# Altium footprint library PcbLib1.PcbLib: 27 footprints (part 2 of 4)
Each footprint in its own frame and in the unit in brackets; x right, y up, seen from the top. Pads: shape width x height; smd on the part's side, far side on the other; paste and mask are expansions set on the pad; w line width, h text height; cw(c..) or ccw(c..) is an arc to the next point about the centre after c.
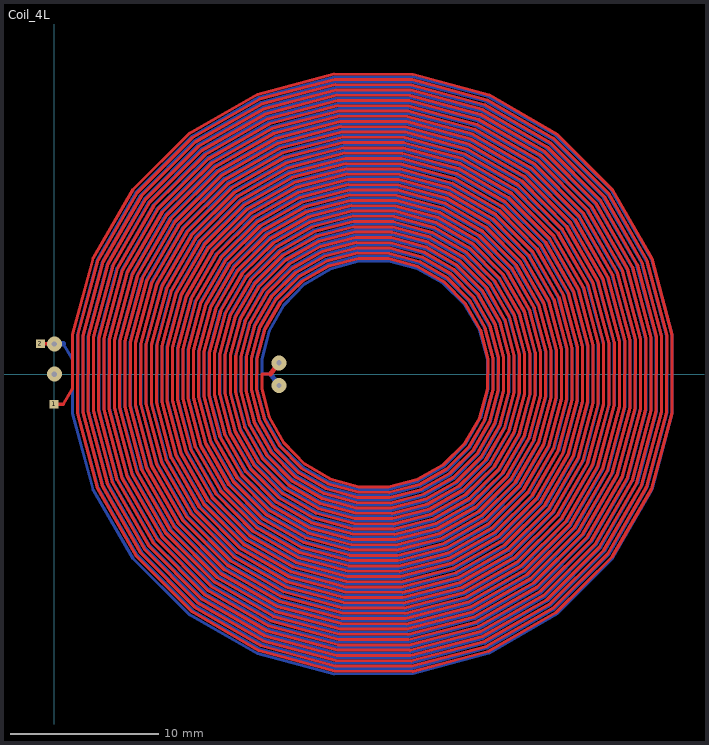
[diagram p1: the footprint, top view; thin cyan lines are the x and y axes]

## Coil_4L [mil]
pads (2):
  rect 24x22 smd: 1(-0.34,-79.53) 2(-37.08,80.47)
via 596,-30 diameter 40 hole 14
via 0,0 diameter 40 hole 14
via 596,30 diameter 40 hole 14
via 0,80 diameter 40 hole 14
Top Layer:
  lines w7.99: -0.34,-79.53 23.66,-79.53 47.66,-39.53 47.66,0.47 48.24,105.61 103.21,308.51 208.75,490.14 357.58,638.15 539.53,742.53 742.14,796.21 951.58,795.63 1153.6,740.9 1334.42,635.82 1481.79,487.64 1585.7,306.49 1639.15,104.77 1638.57,-103.76 1584.08,-304.88 1479.46,-484.92 1331.92,-631.63 1151.57,-735.08 950.74,-788.29 743.13,-787.71 542.9,-733.46 363.66,-629.3 217.6,-482.41 114.6,-302.86 61.63,-102.92 62.21,103.77 116.23,303.12 219.93,481.56 366.16,626.97 544.92,729.51 743.98,782.24 949.74,781.66 1148.2,727.88 1325.85,624.64 1470.61,479.06 1572.68,301.1 1625.18,102.93 1624.6,-101.92 1571.06,-299.49 1468.28,-476.34 1323.35,-620.45 1146.18,-722.07 948.9,-774.32 744.97,-773.74 548.29,-720.44 372.24,-618.12 228.78,-473.84 127.62,-297.47 75.6,-101.08 76.18,101.93 129.25,297.73 231.1,472.98 374.74,615.79 550.31,716.49 745.81,768.27 947.91,767.69 1142.81,714.86 1317.27,613.47 1459.43,470.48 1559.67,295.7 1611.21,101.09 1610.63,-100.08 1558.04,-294.1 1457.1,-467.76 1314.77,-609.27 1140.79,-709.05 947.06,-760.35 746.81,-759.77 553.68,-707.42 380.82,-606.94 239.95,-465.26 140.64,-292.08 89.57,-99.24 90.15,100.09 142.27,292.33 242.28,464.4 383.32,604.62 555.7,703.47 747.65,754.3 946.07,753.72 1137.42,701.84 1308.69,602.29 1448.25,461.9 1546.65,290.31 1597.24,99.25 1596.66,-98.24 1545.02,-288.71 1445.92,-459.18 1306.19,-598.09 1135.4,-696.03 945.22,-746.38 748.65,-745.8 559.07,-694.4 389.39,-595.76 251.13,-456.68 153.66,-286.68 103.54,-97.4 104.12,98.25 155.28,286.94 253.46,455.83 391.9,593.44 561.1,690.45 749.49,740.33 944.23,739.75 1132.03,688.83 1300.11,591.11 1437.07,453.32 1533.63,284.92 1583.27,97.41 1582.69,-96.4 1532,-283.31 1434.75,-450.6 1297.61,-586.91 1130,-683.01 943.38,-732.41 750.49,-731.83 564.47,-681.38 397.97,-584.59 262.31,-448.1 166.68,-281.29 117.51,-95.56 118.09,96.42 168.3,281.55 264.64,447.25 400.47,582.26 566.49,677.44 751.33,726.36 942.39,725.78 1126.63,675.81 1291.54,579.93 1425.9,444.75 1520.61,279.53 1569.3,95.57 1568.72,-94.56 1518.99,-277.92 1423.57,-442.03 1289.03,-575.74 1124.61,-669.99 941.54,-718.44 752.33,-717.86 569.86,-668.37 406.55,-573.41 273.49,-439.52 179.69,-275.9 131.48,-93.72 132.06,94.58 181.32,276.16 275.82,438.67 409.05,571.08 571.88,664.42 753.17,712.39 940.55,711.81 1121.24,662.79 1282.96,568.75 1414.72,436.17 1507.59,274.14 1555.33,93.73 1554.75,-92.72 1505.97,-272.53 1412.39,-433.45 1280.46,-564.56 1119.22,-656.98 939.71,-704.47 754.17,-703.89 575.25,-655.35 415.13,-562.23 284.67,-430.95 192.71,-270.51 145.45,-91.88 146.03,92.74 194.34,270.77 287,430.09 417.63,559.9 577.27,651.4 755.01,698.42 938.71,697.84 1115.85,649.77 1274.38,557.57 1403.54,427.59 1494.58,268.74 1541.36,91.89 1540.78,-90.88 1492.95,-267.14 1401.21,-424.87 1271.88,-553.38 1113.83,-643.96 937.87,-690.5 756.01,-689.92 580.64,-642.33 423.71,-551.05 295.85,-422.37 205.73,-265.11 159.42,-90.04 160,90.9 207.36,265.37 298.18,421.52 426.21,548.72 582.67,638.38 756.85,684.45 936.87,683.87 1110.46,636.75 1265.8,546.39 1392.36,419.01 1481.56,263.35 1527.39,90.06 1526.81,-89.05 1479.93,-261.74 1390.03,-416.29 1263.3,-542.2 1108.44,-630.94 936.03,-676.53 757.85,-675.95 586.04,-629.31 432.28,-539.87 307.03,-413.79 218.75,-259.72 173.39,-88.2 173.97,89.06 220.37,259.98 309.36,412.94 434.78,537.54 588.06,625.36 758.69,670.48 935.03,669.9 1105.07,623.74 1257.22,535.21 1381.18,410.44 1468.54,257.96 1513.42,88.22 1512.84,-87.21 1466.91,-256.35 1378.85,-407.72 1254.72,-531.02 1103.04,-617.92 934.19,-662.56 759.69,-661.98 591.43,-616.29 440.86,-528.69 318.21,-405.21 231.76,-254.33 187.36,-86.36 187.94,87.22 233.39,254.59 320.53,404.36 443.36,526.36 593.45,612.35 760.53,656.51 933.19,655.93 1099.67,610.72 1248.65,524.04 1370,401.86 1455.52,252.57 1499.45,86.38 1498.87,-85.37 1453.9,-250.96 1367.67,-399.14 1246.15,-519.84 1097.65,-604.9 932.35,-648.59 761.52,-648.01 596.82,-603.28 449.44,-517.51 329.38,-396.64 244.78,-248.94 201.33,-84.52 201.91,85.38 246.41,249.2 331.71,395.78 451.94,515.19 598.84,599.33 762.37,642.54 931.35,641.96 1094.28,597.7 1240.07,512.86 1358.82,393.28 1442.5,247.17 1485.48,84.54 1484.9,-83.53 1440.88,-245.57 1356.49,-390.56 1237.57,-508.66 1092.26,-591.89 930.51,-634.62 763.36,-634.04 602.21,-590.26 458.02,-506.33 340.56,-388.06 257.8,-243.55 215.3,-82.68 215.88,83.54 259.43,243.8 342.89,387.2 460.52,504.01 604.23,586.31 764.21,628.57 929.51,627.99 1088.89,584.68 1231.49,501.68 1347.64,384.7 1429.49,241.78 1471.51,82.7 1470.93,-81.69 1427.86,-240.18 1345.32,-381.98 1228.99,-497.48 1086.87,-578.87 928.67,-620.65 765.2,-620.07 607.6,-577.24 466.59,-495.16 351.74,-379.48 270.82,-238.15 229.27,-80.85 229.85,81.7 272.45,238.41 354.07,378.63 469.1,492.83 609.63,573.29 766.05,614.6 927.67,614.02 1083.5,571.66 1222.91,490.5 1336.47,376.12 1416.47,236.39 1457.54,80.86 1456.96,-79.85 1414.84,-234.78 1334.14,-373.4 1220.41,-486.31 1081.47,-565.85 926.83,-606.68 767.04,-606.1 613,-564.22 475.17,-483.98 362.92,-370.9 283.84,-232.76 243.24,-79.01 243.82,79.86 285.46,233.02 365.25,370.05 477.67,481.65 615.02,560.27 767.89,600.63 925.83,600.05 1078.1,558.65 1214.34,479.32 1325.29,367.55 1403.45,231 1443.57,79.02 1442.99,-78.01 1401.82,-229.39 1322.96,-364.83 1211.83,-475.13 1076.08,-552.83 924.99,-592.71 768.88,-592.13 618.39,-551.2 483.75,-472.8 374.1,-362.32 296.85,-227.37 257.21,-77.17 257.79,78.02 298.48,227.63 376.43,361.47 486.25,470.47 620.41,547.26 769.72,586.66 924,586.08 1072.71,545.63 1205.76,468.14 1314.11,358.97 1390.43,225.61 1429.6,77.18 1429.02,-76.17 1388.81,-224 1311.78,-356.25 1203.26,-463.95 1070.69,-539.81 923.15,-578.74 770.72,-578.16 623.78,-538.19 492.33,-461.62 385.28,-353.75 309.87,-221.98 271.18,-75.33 271.76,76.18 311.5,222.24 387.61,352.89 494.83,459.29 625.8,534.24 771.56,572.69 922.16,572.11 1067.32,532.61 1197.18,456.96 1302.93,350.39 1377.41,220.21 1415.63,75.34 1415.05,-74.33 1375.79,-218.61 1300.6,-347.67 1194.68,-452.77 1065.3,-526.8 921.31,-564.77 772.56,-564.19 629.17,-525.17 500.91,-450.44 396.46,-345.17 322.89,-216.58 285.15,-73.49 285.73,74.35 324.52,216.84 398.79,344.32 503.41,448.11 631.2,521.22 773.4,558.72 920.32,558.14 1061.93,519.59 1188.6,445.78 1291.75,341.81 1364.4,214.82 1401.66,73.5 1401.08,-72.49 1362.77,-213.21 1289.42,-339.09 1186.1,-441.59 1059.91,-513.78 919.47,-550.8 774.4,-550.22 634.57,-512.15 509.48,-439.26 407.64,-336.59 335.91,-211.19 299.12,-71.65 299.7,72.51 337.54,211.45 409.96,335.74 511.98,436.93 636.59,508.2 775.24,544.75 918.48,544.17 1056.54,506.57 1180.02,434.61 1280.57,333.24 1351.38,209.43 1387.69,71.66 1387.11,-70.65 1349.75,-207.82 1278.24,-330.52 1177.52,-430.41 1054.51,-500.76 917.64,-536.83 776.24,-536.25 639.96,-499.13 518.06,-428.08 418.81,-328.01 348.93,-205.8 313.09,-69.81 313.67,70.67 350.55,206.06 421.14,327.16 520.56,425.76 641.98,495.18 777.08,530.78 916.64,530.2 1051.14,493.56 1171.45,423.43 1269.39,324.66 1338.36,204.04 1373.72,69.82 1373.14,-68.81 1336.73,-202.43 1267.06,-321.94 1168.95,-419.23 1049.12,-487.74 915.8,-522.86 778.08,-522.28 645.35,-486.11 526.64,-416.9 429.99,-319.44 361.94,-200.41 327.06,-67.97 327.64,68.83 363.57,200.67 432.32,318.58 529.14,414.58 647.37,482.17 778.92,516.81 914.8,516.23 1045.75,480.54 1162.87,412.25 1258.21,316.08 1325.34,198.65 1359.75,67.98 1359.17,-66.97 1323.72,-197.04 1255.88,-313.36 1160.37,-408.05 1043.73,-474.72 913.96,-508.89 779.92,-508.31 650.74,-473.1 535.22,-405.73 441.17,-310.86 374.96,-195.02 341.03,-66.13 341.61,66.99 376.59,195.27 443.5,310 537.72,403.4 652.76,469.15 780.76,502.84 912.96,502.26 1040.36,467.52 1154.29,401.07 1247.04,307.5 1312.33,193.25 1345.78,66.15 1345.2,-65.14 1310.7,-191.65 1244.71,-304.78 1151.79,-396.88 1038.34,-461.71 912.12,-494.92 781.76,-494.34 656.13,-460.08 543.79,-394.55 452.35,-302.28 387.98,-189.62 355,-64.29 355.58,65.15 389.61,189.88 454.68,301.43 546.3,392.22 658.16,456.13 782.6,488.87 911.12,488.29 1034.97,454.5 1145.71,389.89 1235.86,298.92 1299.31,187.86 1331.81,64.31 1331.23,-63.3 1297.68,-186.25 1233.53,-296.2 1143.21,-385.7 1032.94,-448.69 910.28,-480.95 783.59,-480.37 661.53,-447.06 552.37,-383.37 463.53,-293.7 401,-184.23 368.97,-62.45 369.55,63.31 402.63,184.49 465.86,292.85 554.87,381.04 663.55,443.11 784.44,474.9 909.28,474.32 1029.57,441.48 1137.14,378.71 1224.68,290.35 1286.29,182.47 1317.84,62.47 1317.26,-61.46 1284.66,-180.86 1222.35,-287.63 1134.63,-374.52 1027.55,-435.67 908.44,-466.98 785.43,-466.4 666.92,-434.04 560.95,-372.19 474.71,-285.12 414.02,-178.84 382.94,-60.61 383.52,61.47 415.64,179.1 477.04,284.27 563.45,369.86 668.94,430.09 786.28,460.93 907.44,460.35 1024.18,428.47 1128.56,367.53 1213.5,281.77 1273.27,177.08 1303.87,60.63 1303.29,-59.62 1271.64,-175.47 1211.17,-279.05 1126.06,-363.34 1022.16,-422.65 906.6,-453.01 787.27,-452.43 672.31,-421.02 569.53,-361.01 485.89,-276.55 427.03,-173.45 396.91,-58.78 397.49,59.63 428.66,173.71 488.22,275.69 572.03,358.68 674.33,417.08 788.12,446.96 905.6,446.38 1018.79,415.45 1119.98,356.35 1202.32,273.19 1260.25,171.68 1289.9,58.79 1289.32,-57.78 1258.63,-170.08 1199.99,-270.47 1117.48,-352.16 1016.77,-409.63 904.76,-439.04 789.11,-438.46 677.7,-408.01 578.11,-349.83 497.07,-267.97 440.05,-168.05 410.88,-56.94 411.46,57.79 441.68,168.31 499.39,267.12 580.61,347.5 679.73,404.06 789.96,432.99 903.76,432.41 1013.4,402.43 1111.4,345.18 1191.14,264.61 1247.24,166.29 1275.93,56.95 1275.35,-55.94 1245.61,-164.68 1188.81,-261.89 1108.9,-340.98 1011.38,-396.62 902.92,-425.07 790.95,-424.49 683.1,-394.99 586.68,-338.65 508.24,-259.39 453.07,-162.66 424.85,-55.1 425.43,55.95 454.7,162.92 510.57,258.54 589.18,336.33 685.12,391.04 791.79,419.02 901.93,418.44 1008.01,389.41 1102.82,334 1179.96,256.04 1234.22,160.9 1261.96,55.11 1261.38,-54.1 1232.59,-159.29 1177.63,-253.32 1100.32,-329.8 1005.98,-383.6 901.08,-411.1 792.79,-410.52 688.49,-381.97 595.26,-327.47 519.42,-250.81 466.09,-157.27 438.82,-53.26 439.4,54.11 467.72,157.53 521.75,249.96 597.76,325.15 690.51,378.02 793.63,405.05 900.09,404.47 1002.61,376.39 1094.25,322.82 1168.78,247.46 1221.2,155.51 1247.99,53.27 1247.41,-52.26 1219.57,-153.9 1166.45,-244.74 1091.75,-318.62 1000.59,-370.58 899.24,-397.13 794.63,-396.55 693.88,-368.95 603.84,-316.3 530.6,-242.24 479.11,-151.88 452.79,-51.42 453.37,52.28 480.73,152.14 532.93,241.38 606.34,313.97 695.9,365 795.47,391.08 898.25,390.5 997.22,363.38 1085.67,311.64 1157.6,238.88 1208.18,150.12 1234.02,51.43 1233.44,-50.42 1206.55,-148.51 1155.28,-236.16 1083.17,-307.45 995.2,-357.56 897.4,-383.16 796.47,-382.58 699.27,-355.93 612.42,-305.12 541.78,-233.66 492.12,-146.49 466.76,-49.58 467.34,50.44 493.75,146.74 544.11,232.8 614.92,302.79 701.29,351.99 797.31,377.11 896.41,376.53 991.83,350.36 1077.09,300.46 1146.43,230.3 1195.16,144.72 1220.05,49.59 1219.47,-48.58 1193.54,-143.12 1144.1,-227.58 1074.59,-296.27 989.81,-344.54 895.57,-369.19 798.31,-368.61 704.66,-342.92 620.99,-293.94 552.96,-225.08 505.14,-141.09 480.73,-47.74 481.31,48.6 506.77,141.35 555.29,224.23 623.5,291.61 706.69,338.97 799.15,363.14 894.57,362.56 986.44,337.34 1068.51,289.28 1135.25,221.72 1182.15,139.33 1206.08,47.75 1205.5,-46.74 1180.52,-137.72 1132.92,-219 1066.01,-285.09 984.41,-331.53 893.73,-355.22 800.15,-354.64 710.06,-329.9 629.57,-282.76 564.14,-216.5 518.16,-135.7 494.7,-45.9 495.28,46.76 519.79,135.96 566.47,215.65 632.07,280.43 712.08,325.95 800.99,349.17 892.73,348.59 981.04,324.32 1059.94,278.1 1124.07,213.15 1169.13,133.94 1192.11,45.91 1191.53,-44.9 1167.5,-132.33 1121.74,-210.43 1057.43,-273.91 979.02,-318.51 891.89,-341.25 801.99,-340.67 715.45,-316.88 638.15,-271.58 575.32,-207.92 531.18,-130.31 508.67,-44.06 509.25,44.92 532.81,130.57 577.65,207.07 640.65,269.25 717.47,312.93 802.83,335.2 890.89,334.62 975.65,311.31 1051.36,266.92 1112.89,204.57 1156.11,128.55 1178.14,44.08 1177.56,-43.07 1154.48,-126.94 1110.56,-201.85 1048.86,-262.73 973.63,-305.49 890.05,-327.28 803.83,-326.7 720.84,-303.86 646.73,-260.4 586.5,-199.35 544.2,-124.92 522.64,-42.22 523.22,43.08 545.82,125.18 588.83,198.49 649.23,258.07 722.86,299.91 804.67,321.23 889.05,320.65 970.26,298.29 1042.78,255.75 1101.71,195.99 1143.09,123.15 1164.17,42.24 1163.59,-41.23 1141.46,-121.55 1099.38,-193.27 1040.28,-251.55 968.24,-292.47 888.21,-313.31 805.67,-312.73 726.23,-290.84 655.31,-249.22 597.68,-190.77 557.21,-119.52 536.61,-40.38 537.19,41.24 558.84,119.78 600,189.92 657.81,246.9 728.26,286.9 806.51,307.26 887.21,306.68 964.87,285.27 1034.2,244.57 1090.53,187.41 1130.07,117.76 1150.2,40.4 1149.62,-39.39 1128.45,-116.15 1088.2,-184.69 1031.7,-240.37 962.85,-279.45 886.37,-299.34 807.5,-298.76 731.63,-277.83 663.88,-238.04 608.85,-182.19 570.23,-114.13 550.58,-38.54 551.16,0.47 573.62,0.47
  lines w10: -37.08,80.47 -0.47,80.47 ; -0.34,-79.53 23.66,-79.53
  lines w14: 573.62,0.47 596.09,30.47
Mid-Layer 1:
  lines w7.99: 23.66,0.47 47.66,0.47 48.24,-104.68 103.21,-307.58 208.75,-489.2 357.58,-637.22 539.53,-741.59 742.14,-795.28 951.58,-794.7 1153.6,-739.96 1334.42,-634.89 1481.79,-486.7 1585.7,-305.56 1639.15,-103.84 1638.57,104.69 1584.08,305.82 1479.46,485.85 1331.92,632.56 1151.57,736.02 950.74,789.23 743.13,788.64 542.9,734.39 363.66,630.23 217.6,483.35 114.6,303.79 61.63,103.85 62.21,-102.84 116.23,-302.19 219.93,-480.63 366.16,-626.04 544.92,-728.57 743.98,-781.31 949.74,-780.73 1148.2,-726.95 1325.85,-623.71 1470.61,-478.12 1572.68,-300.16 1625.18,-102 1624.6,102.85 1571.06,300.42 1468.28,477.27 1323.35,621.38 1146.18,723 948.9,775.26 744.97,774.67 548.29,721.37 372.24,619.06 228.78,474.77 127.62,298.4 75.6,102.01 76.18,-101 129.25,-296.79 231.1,-472.05 374.74,-614.86 550.31,-715.56 745.81,-767.34 947.91,-766.76 1142.81,-713.93 1317.27,-612.53 1459.43,-469.55 1559.67,-294.77 1611.21,-100.16 1610.63,101.01 1558.04,295.03 1457.1,468.69 1314.77,610.21 1140.79,709.98 947.06,761.29 746.81,760.7 553.68,708.35 380.82,607.88 239.95,466.19 140.64,293.01 89.57,100.17 90.15,-99.16 142.27,-291.4 242.28,-463.47 383.32,-603.68 555.7,-702.54 747.65,-753.37 946.07,-752.79 1137.42,-700.91 1308.69,-601.35 1448.25,-460.97 1546.65,-289.38 1597.24,-98.32 1596.66,99.17 1545.02,289.64 1445.92,460.12 1306.19,599.03 1135.4,696.96 945.22,747.32 748.65,746.73 559.07,695.34 389.39,596.7 251.13,457.61 153.66,287.62 103.54,98.33 104.12,-97.32 155.28,-286.01 253.46,-454.89 391.9,-592.5 561.1,-689.52 749.49,-739.4 944.23,-738.82 1132.03,-687.89 1300.11,-590.18 1437.07,-452.39 1533.63,-283.99 1583.27,-96.48 1582.69,97.34 1532,284.25 1434.75,451.54 1297.61,587.85 1130,683.94 943.38,733.35 750.49,732.76 564.47,682.32 397.97,585.52 262.31,449.04 166.68,282.22 117.51,96.49 118.09,-95.48 168.3,-280.62 264.64,-446.32 400.47,-581.33 566.49,-676.5 751.33,-725.43 942.39,-724.85 1126.63,-674.87 1291.54,-579 1425.9,-443.81 1520.61,-278.59 1569.3,-94.64 1568.72,95.5 1518.99,278.85 1423.57,442.96 1289.03,576.67 1124.61,670.93 941.54,719.38 752.33,718.79 569.86,669.3 406.55,574.34 273.49,440.46 179.69,276.83 131.48,94.65 132.06,-93.64 181.32,-275.22 275.82,-437.74 409.05,-570.15 571.88,-663.48 753.17,-711.46 940.55,-710.88 1121.24,-661.86 1282.96,-567.82 1414.72,-435.24 1507.59,-273.2 1555.33,-92.8 1554.75,93.66 1505.97,273.46 1412.39,434.38 1280.46,565.49 1119.22,657.91 939.71,705.41 754.17,704.82 575.25,656.28 415.13,563.16 284.67,431.88 192.71,271.44 145.45,92.81 146.03,-91.8 194.34,-269.83 287,-429.16 417.63,-558.97 577.27,-650.47 755.01,-697.49 938.71,-696.91 1115.85,-648.84 1274.38,-556.64 1403.54,-426.66 1494.58,-267.81 1541.36,-90.96 1540.78,91.82 1492.95,268.07 1401.21,425.8 1271.88,554.31 1113.83,644.89 937.87,691.44 756.01,690.85 580.64,643.26 423.71,551.98 295.85,423.3 205.73,266.05 159.42,90.97 160,-89.96 207.36,-264.44 298.18,-420.58 426.21,-547.79 582.67,-637.45 756.85,-683.52 936.87,-682.94 1110.46,-635.82 1265.8,-545.46 1392.36,-418.08 1481.56,-262.42 1527.39,-89.12 1526.81,89.98 1479.93,262.68 1390.03,417.23 1263.3,543.13 1108.44,631.87 936.03,677.47 757.85,676.88 586.04,630.25 432.28,540.8 307.03,414.72 218.75,260.66 173.39,89.14 173.97,-88.13 220.37,-259.05 309.36,-412 434.78,-536.61 588.06,-624.43 758.69,-669.55 935.03,-668.97 1105.07,-622.8 1257.22,-534.28 1381.18,-409.5 1468.54,-257.03 1513.42,-87.28 1512.84,88.14 1466.91,257.29 1378.85,408.65 1254.72,531.95 1103.04,618.85 934.19,663.5 759.69,662.91 591.43,617.23 440.86,529.63 318.21,406.15 231.76,255.26 187.36,87.3 187.94,-86.29 233.39,-253.66 320.53,-403.43 443.36,-525.43 593.45,-611.41 760.53,-655.58 933.19,-655 1099.67,-609.78 1248.65,-523.1 1370,-400.92 1455.52,-251.63 1499.45,-85.44 1498.87,86.3 1453.9,251.89 1367.67,400.07 1246.15,520.78 1097.65,605.84 932.35,649.53 761.52,648.94 596.82,604.21 449.44,518.45 329.38,397.57 244.78,249.87 201.33,85.46 201.91,-84.45 246.41,-248.26 331.71,-394.85 451.94,-514.25 598.84,-598.39 762.37,-641.61 931.35,-641.03 1094.28,-596.77 1240.07,-511.92 1358.82,-392.35 1442.5,-246.24 1485.48,-83.6 1484.9,84.46 1440.88,246.5 1356.49,391.49 1237.57,509.6 1092.26,592.82 930.51,635.56 763.36,634.97 602.21,591.19 458.02,507.27 340.56,388.99 257.8,244.48 215.3,83.62 215.88,-82.61 259.43,-242.87 342.89,-386.27 460.52,-503.07 604.23,-585.38 764.21,-627.64 929.51,-627.06 1088.89,-583.75 1231.49,-500.75 1347.64,-383.77 1429.49,-240.85 1471.51,-81.77 1470.93,82.62 1427.86,241.11 1345.32,382.92 1228.99,498.42 1086.87,579.8 928.67,621.59 765.2,621 607.6,578.17 466.59,496.09 351.74,380.41 270.82,239.09 229.27,81.78 229.85,-80.77 272.45,-237.48 354.07,-377.69 469.1,-491.9 609.63,-572.36 766.05,-613.67 927.67,-613.09 1083.5,-570.73 1222.91,-489.57 1336.47,-375.19 1416.47,-235.46 1457.54,-79.93 1456.96,80.78 1414.84,235.72 1334.14,374.34 1220.41,487.24 1081.47,566.78 926.83,607.62 767.04,607.03 613,565.16 475.17,484.91 362.92,371.84 283.84,233.69 243.24,79.94 243.82,-78.93 285.46,-232.09 365.25,-369.12 477.67,-480.72 615.02,-559.34 767.89,-599.7 925.83,-599.12 1078.1,-557.71 1214.34,-478.39 1325.29,-366.61 1403.45,-230.06 1443.57,-78.09 1442.99,78.94 1401.82,230.32 1322.96,365.76 1211.83,476.06 1076.08,553.76 924.99,593.65 768.88,593.06 618.39,552.14 483.75,473.73 374.1,363.26 296.85,228.3 257.21,78.1 257.79,-77.09 298.48,-226.69 376.43,-360.54 486.25,-469.54 620.41,-546.32 769.72,-585.73 924,-585.15 1072.71,-544.7 1205.76,-467.21 1314.11,-358.04 1390.43,-224.67 1429.6,-76.25 1429.02,77.1 1388.81,224.93 1311.78,357.18 1203.26,464.88 1070.69,540.75 923.15,579.68 770.72,579.09 623.78,539.12 492.33,462.55 385.28,354.68 309.87,222.91 271.18,76.26 271.76,-75.25 311.5,-221.3 387.61,-351.96 494.83,-458.36 625.8,-533.3 771.56,-571.76 922.16,-571.18 1067.32,-531.68 1197.18,-456.03 1302.93,-349.46 1377.41,-219.28 1415.63,-74.41 1415.05,75.27 1375.79,219.54 1300.6,348.6 1194.68,453.7 1065.3,527.73 921.31,565.71 772.56,565.12 629.17,526.1 500.91,451.37 396.46,346.1 322.89,217.52 285.15,74.42 285.73,-73.41 324.52,-215.91 398.79,-343.38 503.41,-447.18 631.2,-520.29 773.4,-557.79 920.32,-557.21 1061.93,-518.66 1188.6,-444.85 1291.75,-340.88 1364.4,-213.89 1401.66,-72.57 1401.08,73.43 1362.77,214.15 1289.42,340.03 1186.1,442.52 1059.91,514.71 919.47,551.74 774.4,551.15 634.57,513.08 509.48,440.19 407.64,337.52 335.91,212.13 299.12,72.58 299.7,-71.57 337.54,-210.52 409.96,-334.8 511.98,-436 636.59,-507.27 775.24,-543.82 918.48,-543.24 1056.54,-505.64 1180.02,-433.67 1280.57,-332.3 1351.38,-208.5 1387.69,-70.73 1387.11,71.59 1349.75,208.76 1278.24,331.45 1177.52,431.35 1054.51,501.69 917.64,537.77 776.24,537.18 639.96,500.07 518.06,429.02 418.81,328.95 348.93,206.73 313.09,70.74 313.67,-69.73 350.55,-205.13 421.14,-326.23 520.56,-424.82 641.98,-494.25 777.08,-529.85 916.64,-529.27 1051.14,-492.62 1171.45,-422.49 1269.39,-323.72 1338.36,-203.1 1373.72,-68.89 1373.14,69.75 1336.73,203.36 1267.06,322.87 1168.95,420.17 1049.12,488.67 915.8,523.8 778.08,523.21 645.35,487.05 526.64,417.84 429.99,320.37 361.94,201.34 327.06,68.9 327.64,-67.89 363.57,-199.73 432.32,-317.65 529.14,-413.64 647.37,-481.23 778.92,-515.88 914.8,-515.3 1045.75,-479.61 1162.87,-411.31 1258.21,-315.15 1325.34,-197.71 1359.75,-67.05 1359.17,67.91 1323.72,197.97 1255.88,314.29 1160.37,408.99 1043.73,475.66 913.96,509.83 779.92,509.24 650.74,474.03 535.22,406.66 441.17,311.79 374.96,195.95 341.03,67.07 341.61,-66.06 376.59,-194.34 443.5,-309.07 537.72,-402.46 652.76,-468.21 780.76,-501.91 912.96,-501.33 1040.36,-466.59 1154.29,-400.14 1247.04,-306.57 1312.33,-192.32 1345.78,-65.21 1345.2,66.07 1310.7,192.58 1244.71,305.72 1151.79,397.81 1038.34,462.64 912.12,495.86 781.76,495.27 656.13,461.01 543.79,395.48 452.35,303.21 387.98,190.56 355,65.23 355.58,-64.22 389.61,-188.95 454.68,-300.49 546.3,-391.29 658.16,-455.2 782.6,-487.94 911.12,-487.36 1034.97,-453.57 1145.71,-388.96 1235.86,-297.99 1299.31,-186.93 1331.81,-63.37 1331.23,64.23 1297.68,187.19 1233.53,297.14 1143.21,386.63 1032.94,449.62 910.28,481.89 783.59,481.3 661.53,447.99 552.37,384.3 463.53,294.64 401,185.16 368.97,63.39 369.55,-62.38 402.63,-183.56 465.86,-291.92 554.87,-380.11 663.55,-442.18 784.44,-473.97 909.28,-473.39 1029.57,-440.55 1137.14,-377.78 1224.68,-289.41 1286.29,-181.53 1317.84,-61.53 1317.26,62.39 1284.66,181.79 1222.35,288.56 1134.63,375.45 1027.55,436.6 908.44,467.92 785.43,467.33 666.92,434.98 560.95,373.12 474.71,286.06 414.02,179.77 382.94,61.55 383.52,-60.54 415.64,-178.16 477.04,-283.34 563.45,-368.93 668.94,-429.16 786.28,-460 907.44,-459.42 1024.18,-427.53 1128.56,-366.6 1213.5,-280.84 1273.27,-176.14 1303.87,-59.69 1303.29,60.55 1271.64,176.4 1211.17,279.98 1126.06,364.27 1022.16,423.58 906.6,453.95 787.27,453.36 672.31,421.96 569.53,361.94 485.89,277.48 427.03,174.38 396.91,59.71 397.49,-58.7 428.66,-172.77 488.22,-274.76 572.03,-357.75 674.33,-416.14 788.12,-446.03 905.6,-445.45 1018.79,-414.52 1119.98,-355.42 1202.32,-272.26 1260.25,-170.75 1289.9,-57.86 1289.32,58.71 1258.63,171.01 1199.99,271.4 1117.48,353.09 1016.77,410.57 904.76,439.98 789.11,439.39 677.7,408.94 578.11,350.76 497.07,268.9 440.05,168.99 410.88,57.87 411.46,-56.86 441.68,-167.38 499.39,-266.18 580.61,-346.57 679.73,-403.12 789.96,-432.06 903.76,-431.48 1013.4,-401.5 1111.4,-344.24 1191.14,-263.68 1247.24,-165.36 1275.93,-56.02 1275.35,56.87 1245.61,165.62 1188.81,262.83 1108.9,341.91 1011.38,397.55 902.92,426.01 790.95,425.42 683.1,395.92 586.68,339.59 508.24,260.32 453.07,163.6 424.85,56.03 425.43,-55.02 454.7,-161.99 510.57,-257.6 589.18,-335.39 685.12,-390.11 791.79,-418.09 901.93,-417.51 1008.01,-388.48 1102.82,-333.06 1179.96,-255.1 1234.22,-159.97 1261.96,-54.18 1261.38,55.03 1232.59,160.23 1177.63,254.25 1100.32,330.74 1005.98,384.53 901.08,412.04 792.79,411.45 688.49,382.9 595.26,328.41 519.42,251.75 466.09,158.2 438.82,54.19 439.4,-53.18 467.72,-156.6 521.75,-249.03 597.76,-324.21 690.51,-377.09 793.63,-404.12 900.09,-403.54 1002.61,-375.46 1094.25,-321.88 1168.78,-246.52 1221.2,-154.57 1247.99,-52.34 1247.41,53.19 1219.57,154.83 1166.45,245.67 1091.75,319.56 1000.59,371.51 899.24,398.07 794.63,397.48 693.88,369.89 603.84,317.23 530.6,243.17 479.11,152.81 452.79,52.35 453.37,-51.34 480.73,-151.2 532.93,-240.45 606.34,-313.03 695.9,-364.07 795.47,-390.15 898.25,-389.57 997.22,-362.44 1085.67,-310.71 1157.6,-237.95 1208.18,-149.18 1234.02,-50.5 1233.44,51.36 1206.55,149.44 1155.28,237.09 1083.17,308.38 995.2,358.5 897.4,384.1 796.47,383.51 699.27,356.87 612.42,306.05 541.78,234.59 492.12,147.42 466.76,50.51 467.34,-49.5 493.75,-145.81 544.11,-231.87 614.92,-301.86 701.29,-351.05 797.31,-376.18 896.41,-375.6 991.83,-349.43 1077.09,-299.53 1146.43,-229.37 1195.16,-143.79 1220.05,-48.66 1219.47,49.52 1193.54,144.05 1144.1,228.52 1074.59,297.2 989.81,345.48 895.57,370.13 798.31,369.54 704.66,343.85 620.99,294.87 552.96,226.01 505.14,142.03 480.73,48.67 481.31,-47.66 506.77,-140.42 555.29,-223.29 623.5,-290.68 706.69,-338.03 799.15,-362.21 894.57,-361.63 986.44,-336.41 1068.51,-288.35 1135.25,-220.79 1182.15,-138.4 1206.08,-46.82 1205.5,47.68 1180.52,138.66 1132.92,219.94 1066.01,286.02 984.41,332.46 893.73,356.16 800.15,355.57 710.06,330.83 629.57,283.69 564.14,217.44 518.16,136.63 494.7,46.83 495.28,-45.82 519.79,-135.03 566.47,-214.72 632.07,-279.5 712.08,-325.02 800.99,-348.24 892.73,-347.66 981.04,-323.39 1059.94,-277.17 1124.07,-212.21 1169.13,-133 1192.11,-44.98 1191.53,45.84 1167.5,133.26 1121.74,211.36 1057.43,274.84 979.02,319.44 891.89,342.19 801.99,341.6 715.45,317.81 638.15,272.51 575.32,208.86 531.18,131.24 508.67,45 509.25,-43.99 532.81,-129.63 577.65,-206.14 640.65,-268.32 717.47,-312 802.83,-334.27 890.89,-333.69 975.65,-310.37 1051.36,-265.99 1112.89,-203.64 1156.11,-127.61 1178.14,-43.14 1177.56,44 1154.48,127.87 1110.56,202.78 1048.86,263.66 973.63,306.42 890.05,328.22 803.83,327.63 720.84,304.8 646.73,261.33 586.5,200.28 544.2,125.85 522.64,43.16 523.22,-42.15 545.82,-124.24 588.83,-197.56 649.23,-257.14 722.86,-298.98 804.67,-320.3 889.05,-319.72 970.26,-297.35 1042.78,-254.81 1101.71,-195.06 1143.09,-122.22 1164.17,-41.3 1163.59,42.16 1141.46,122.48 1099.38,194.2 1040.28,252.48 968.24,293.41 888.21,314.25 805.67,313.66 726.23,291.78 655.31,250.16 597.68,191.7 557.21,120.46 536.61,41.32 537.19,-40.31 558.84,-118.85 600,-188.98 657.81,-245.96 728.26,-285.96 806.51,-306.33 887.21,-305.75 964.87,-284.34 1034.2,-243.63 1090.53,-186.48 1130.07,-116.83 1150.2,-39.46 1149.62,40.32 1128.45,117.09 1088.2,185.63 1031.7,241.31 962.85,280.39 886.37,300.28 807.5,299.69 731.63,278.76 663.88,238.98 608.85,183.12 570.23,115.07 550.58,39.48 551.16,0.47 573.62,0.47
  lines w14: -0.34,0.47 23.66,0.47 ; 573.62,0.47 596.09,30.47
Mid-Layer 2:
  lines w7.99: 23.66,0.47 47.66,0.47 48.24,105.61 103.21,308.51 208.75,490.14 357.58,638.15 539.53,742.53 742.14,796.21 951.58,795.63 1153.6,740.9 1334.42,635.82 1481.79,487.64 1585.7,306.49 1639.15,104.77 1638.57,-103.76 1584.08,-304.88 1479.46,-484.92 1331.92,-631.63 1151.57,-735.08 950.74,-788.29 743.13,-787.71 542.9,-733.46 363.66,-629.3 217.6,-482.41 114.6,-302.86 61.63,-102.92 62.21,103.77 116.23,303.12 219.93,481.56 366.16,626.97 544.92,729.51 743.98,782.24 949.74,781.66 1148.2,727.88 1325.85,624.64 1470.61,479.06 1572.68,301.1 1625.18,102.93 1624.6,-101.92 1571.06,-299.49 1468.28,-476.34 1323.35,-620.45 1146.18,-722.07 948.9,-774.32 744.97,-773.74 548.29,-720.44 372.24,-618.12 228.78,-473.84 127.62,-297.47 75.6,-101.08 76.18,101.93 129.25,297.73 231.1,472.98 374.74,615.79 550.31,716.49 745.81,768.27 947.91,767.69 1142.81,714.86 1317.27,613.47 1459.43,470.48 1559.67,295.7 1611.21,101.09 1610.63,-100.08 1558.04,-294.1 1457.1,-467.76 1314.77,-609.27 1140.79,-709.05 947.06,-760.35 746.81,-759.77 553.68,-707.42 380.82,-606.94 239.95,-465.26 140.64,-292.08 89.57,-99.24 90.15,100.09 142.27,292.33 242.28,464.4 383.32,604.62 555.7,703.47 747.65,754.3 946.07,753.72 1137.42,701.84 1308.69,602.29 1448.25,461.9 1546.65,290.31 1597.24,99.25 1596.66,-98.24 1545.02,-288.71 1445.92,-459.18 1306.19,-598.09 1135.4,-696.03 945.22,-746.38 748.65,-745.8 559.07,-694.4 389.39,-595.76 251.13,-456.68 153.66,-286.68 103.54,-97.4 104.12,98.25 155.28,286.94 253.46,455.83 391.9,593.44 561.1,690.45 749.49,740.33 944.23,739.75 1132.03,688.83 1300.11,591.11 1437.07,453.32 1533.63,284.92 1583.27,97.41 1582.69,-96.4 1532,-283.31 1434.75,-450.6 1297.61,-586.91 1130,-683.01 943.38,-732.41 750.49,-731.83 564.47,-681.38 397.97,-584.59 262.31,-448.1 166.68,-281.29 117.51,-95.56 118.09,96.42 168.3,281.55 264.64,447.25 400.47,582.26 566.49,677.44 751.33,726.36 942.39,725.78 1126.63,675.81 1291.54,579.93 1425.9,444.75 1520.61,279.53 1569.3,95.57 1568.72,-94.56 1518.99,-277.92 1423.57,-442.03 1289.03,-575.74 1124.61,-669.99 941.54,-718.44 752.33,-717.86 569.86,-668.37 406.55,-573.41 273.49,-439.52 179.69,-275.9 131.48,-93.72 132.06,94.58 181.32,276.16 275.82,438.67 409.05,571.08 571.88,664.42 753.17,712.39 940.55,711.81 1121.24,662.79 1282.96,568.75 1414.72,436.17 1507.59,274.14 1555.33,93.73 1554.75,-92.72 1505.97,-272.53 1412.39,-433.45 1280.46,-564.56 1119.22,-656.98 939.71,-704.47 754.17,-703.89 575.25,-655.35 415.13,-562.23 284.67,-430.95 192.71,-270.51 145.45,-91.88 146.03,92.74 194.34,270.77 287,430.09 417.63,559.9 577.27,651.4 755.01,698.42 938.71,697.84 1115.85,649.77 1274.38,557.57 1403.54,427.59 1494.58,268.74 1541.36,91.89 1540.78,-90.88 1492.95,-267.14 1401.21,-424.87 1271.88,-553.38 1113.83,-643.96 937.87,-690.5 756.01,-689.92 580.64,-642.33 423.71,-551.05 295.85,-422.37 205.73,-265.11 159.42,-90.04 160,90.9 207.36,265.37 298.18,421.52 426.21,548.72 582.67,638.38 756.85,684.45 936.87,683.87 1110.46,636.75 1265.8,546.39 1392.36,419.01 1481.56,263.35 1527.39,90.06 1526.81,-89.05 1479.93,-261.74 1390.03,-416.29 1263.3,-542.2 1108.44,-630.94 936.03,-676.53 757.85,-675.95 586.04,-629.31 432.28,-539.87 307.03,-413.79 218.75,-259.72 173.39,-88.2 173.97,89.06 220.37,259.98 309.36,412.94 434.78,537.54 588.06,625.36 758.69,670.48 935.03,669.9 1105.07,623.74 1257.22,535.21 1381.18,410.44 1468.54,257.96 1513.42,88.22 1512.84,-87.21 1466.91,-256.35 1378.85,-407.72 1254.72,-531.02 1103.04,-617.92 934.19,-662.56 759.69,-661.98 591.43,-616.29 440.86,-528.69 318.21,-405.21 231.76,-254.33 187.36,-86.36 187.94,87.22 233.39,254.59 320.53,404.36 443.36,526.36 593.45,612.35 760.53,656.51 933.19,655.93 1099.67,610.72 1248.65,524.04 1370,401.86 1455.52,252.57 1499.45,86.38 1498.87,-85.37 1453.9,-250.96 1367.67,-399.14 1246.15,-519.84 1097.65,-604.9 932.35,-648.59 761.52,-648.01 596.82,-603.28 449.44,-517.51 329.38,-396.64 244.78,-248.94 201.33,-84.52 201.91,85.38 246.41,249.2 331.71,395.78 451.94,515.19 598.84,599.33 762.37,642.54 931.35,641.96 1094.28,597.7 1240.07,512.86 1358.82,393.28 1442.5,247.17 1485.48,84.54 1484.9,-83.53 1440.88,-245.57 1356.49,-390.56 1237.57,-508.66 1092.26,-591.89 930.51,-634.62 763.36,-634.04 602.21,-590.26 458.02,-506.33 340.56,-388.06 257.8,-243.55 215.3,-82.68 215.88,83.54 259.43,243.8 342.89,387.2 460.52,504.01 604.23,586.31 764.21,628.57 929.51,627.99 1088.89,584.68 1231.49,501.68 1347.64,384.7 1429.49,241.78 1471.51,82.7 1470.93,-81.69 1427.86,-240.18 1345.32,-381.98 1228.99,-497.48 1086.87,-578.87 928.67,-620.65 765.2,-620.07 607.6,-577.24 466.59,-495.16 351.74,-379.48 270.82,-238.15 229.27,-80.85 229.85,81.7 272.45,238.41 354.07,378.63 469.1,492.83 609.63,573.29 766.05,614.6 927.67,614.02 1083.5,571.66 1222.91,490.5 1336.47,376.12 1416.47,236.39 1457.54,80.86 1456.96,-79.85 1414.84,-234.78 1334.14,-373.4 1220.41,-486.31 1081.47,-565.85 926.83,-606.68 767.04,-606.1 613,-564.22 475.17,-483.98 362.92,-370.9 283.84,-232.76 243.24,-79.01 243.82,79.86 285.46,233.02 365.25,370.05 477.67,481.65 615.02,560.27 767.89,600.63 925.83,600.05 1078.1,558.65 1214.34,479.32 1325.29,367.55 1403.45,231 1443.57,79.02 1442.99,-78.01 1401.82,-229.39 1322.96,-364.83 1211.83,-475.13 1076.08,-552.83 924.99,-592.71 768.88,-592.13 618.39,-551.2 483.75,-472.8 374.1,-362.32 296.85,-227.37 257.21,-77.17 257.79,78.02 298.48,227.63 376.43,361.47 486.25,470.47 620.41,547.26 769.72,586.66 924,586.08 1072.71,545.63 1205.76,468.14 1314.11,358.97 1390.43,225.61 1429.6,77.18 1429.02,-76.17 1388.81,-224 1311.78,-356.25 1203.26,-463.95 1070.69,-539.81 923.15,-578.74 770.72,-578.16 623.78,-538.19 492.33,-461.62 385.28,-353.75 309.87,-221.98 271.18,-75.33 271.76,76.18 311.5,222.24 387.61,352.89 494.83,459.29 625.8,534.24 771.56,572.69 922.16,572.11 1067.32,532.61 1197.18,456.96 1302.93,350.39 1377.41,220.21 1415.63,75.34 1415.05,-74.33 1375.79,-218.61 1300.6,-347.67 1194.68,-452.77 1065.3,-526.8 921.31,-564.77 772.56,-564.19 629.17,-525.17 500.91,-450.44 396.46,-345.17 322.89,-216.58 285.15,-73.49 285.73,74.35 324.52,216.84 398.79,344.32 503.41,448.11 631.2,521.22 773.4,558.72 920.32,558.14 1061.93,519.59 1188.6,445.78 1291.75,341.81 1364.4,214.82 1401.66,73.5 1401.08,-72.49 1362.77,-213.21 1289.42,-339.09 1186.1,-441.59 1059.91,-513.78 919.47,-550.8 774.4,-550.22 634.57,-512.15 509.48,-439.26 407.64,-336.59 335.91,-211.19 299.12,-71.65 299.7,72.51 337.54,211.45 409.96,335.74 511.98,436.93 636.59,508.2 775.24,544.75 918.48,544.17 1056.54,506.57 1180.02,434.61 1280.57,333.24 1351.38,209.43 1387.69,71.66 1387.11,-70.65 1349.75,-207.82 1278.24,-330.52 1177.52,-430.41 1054.51,-500.76 917.64,-536.83 776.24,-536.25 639.96,-499.13 518.06,-428.08 418.81,-328.01 348.93,-205.8 313.09,-69.81 313.67,70.67 350.55,206.06 421.14,327.16 520.56,425.76 641.98,495.18 777.08,530.78 916.64,530.2 1051.14,493.56 1171.45,423.43 1269.39,324.66 1338.36,204.04 1373.72,69.82 1373.14,-68.81 1336.73,-202.43 1267.06,-321.94 1168.95,-419.23 1049.12,-487.74 915.8,-522.86 778.08,-522.28 645.35,-486.11 526.64,-416.9 429.99,-319.44 361.94,-200.41 327.06,-67.97 327.64,68.83 363.57,200.67 432.32,318.58 529.14,414.58 647.37,482.17 778.92,516.81 914.8,516.23 1045.75,480.54 1162.87,412.25 1258.21,316.08 1325.34,198.65 1359.75,67.98 1359.17,-66.97 1323.72,-197.04 1255.88,-313.36 1160.37,-408.05 1043.73,-474.72 913.96,-508.89 779.92,-508.31 650.74,-473.1 535.22,-405.73 441.17,-310.86 374.96,-195.02 341.03,-66.13 341.61,66.99 376.59,195.27 443.5,310 537.72,403.4 652.76,469.15 780.76,502.84 912.96,502.26 1040.36,467.52 1154.29,401.07 1247.04,307.5 1312.33,193.25 1345.78,66.15 1345.2,-65.14 1310.7,-191.65 1244.71,-304.78 1151.79,-396.88 1038.34,-461.71 912.12,-494.92 781.76,-494.34 656.13,-460.08 543.79,-394.55 452.35,-302.28 387.98,-189.62 355,-64.29 355.58,65.15 389.61,189.88 454.68,301.43 546.3,392.22 658.16,456.13 782.6,488.87 911.12,488.29 1034.97,454.5 1145.71,389.89 1235.86,298.92 1299.31,187.86 1331.81,64.31 1331.23,-63.3 1297.68,-186.25 1233.53,-296.2 1143.21,-385.7 1032.94,-448.69 910.28,-480.95 783.59,-480.37 661.53,-447.06 552.37,-383.37 463.53,-293.7 401,-184.23 368.97,-62.45 369.55,63.31 402.63,184.49 465.86,292.85 554.87,381.04 663.55,443.11 784.44,474.9 909.28,474.32 1029.57,441.48 1137.14,378.71 1224.68,290.35 1286.29,182.47 1317.84,62.47 1317.26,-61.46 1284.66,-180.86 1222.35,-287.63 1134.63,-374.52 1027.55,-435.67 908.44,-466.98 785.43,-466.4 666.92,-434.04 560.95,-372.19 474.71,-285.12 414.02,-178.84 382.94,-60.61 383.52,61.47 415.64,179.1 477.04,284.27 563.45,369.86 668.94,430.09 786.28,460.93 907.44,460.35 1024.18,428.47 1128.56,367.53 1213.5,281.77 1273.27,177.08 1303.87,60.63 1303.29,-59.62 1271.64,-175.47 1211.17,-279.05 1126.06,-363.34 1022.16,-422.65 906.6,-453.01 787.27,-452.43 672.31,-421.02 569.53,-361.01 485.89,-276.55 427.03,-173.45 396.91,-58.78 397.49,59.63 428.66,173.71 488.22,275.69 572.03,358.68 674.33,417.08 788.12,446.96 905.6,446.38 1018.79,415.45 1119.98,356.35 1202.32,273.19 1260.25,171.68 1289.9,58.79 1289.32,-57.78 1258.63,-170.08 1199.99,-270.47 1117.48,-352.16 1016.77,-409.63 904.76,-439.04 789.11,-438.46 677.7,-408.01 578.11,-349.83 497.07,-267.97 440.05,-168.05 410.88,-56.94 411.46,57.79 441.68,168.31 499.39,267.12 580.61,347.5 679.73,404.06 789.96,432.99 903.76,432.41 1013.4,402.43 1111.4,345.18 1191.14,264.61 1247.24,166.29 1275.93,56.95 1275.35,-55.94 1245.61,-164.68 1188.81,-261.89 1108.9,-340.98 1011.38,-396.62 902.92,-425.07 790.95,-424.49 683.1,-394.99 586.68,-338.65 508.24,-259.39 453.07,-162.66 424.85,-55.1 425.43,55.95 454.7,162.92 510.57,258.54 589.18,336.33 685.12,391.04 791.79,419.02 901.93,418.44 1008.01,389.41 1102.82,334 1179.96,256.04 1234.22,160.9 1261.96,55.11 1261.38,-54.1 1232.59,-159.29 1177.63,-253.32 1100.32,-329.8 1005.98,-383.6 901.08,-411.1 792.79,-410.52 688.49,-381.97 595.26,-327.47 519.42,-250.81 466.09,-157.27 438.82,-53.26 439.4,54.11 467.72,157.53 521.75,249.96 597.76,325.15 690.51,378.02 793.63,405.05 900.09,404.47 1002.61,376.39 1094.25,322.82 1168.78,247.46 1221.2,155.51 1247.99,53.27 1247.41,-52.26 1219.57,-153.9 1166.45,-244.74 1091.75,-318.62 1000.59,-370.58 899.24,-397.13 794.63,-396.55 693.88,-368.95 603.84,-316.3 530.6,-242.24 479.11,-151.88 452.79,-51.42 453.37,52.28 480.73,152.14 532.93,241.38 606.34,313.97 695.9,365 795.47,391.08 898.25,390.5 997.22,363.38 1085.67,311.64 1157.6,238.88 1208.18,150.12 1234.02,51.43 1233.44,-50.42 1206.55,-148.51 1155.28,-236.16 1083.17,-307.45 995.2,-357.56 897.4,-383.16 796.47,-382.58 699.27,-355.93 612.42,-305.12 541.78,-233.66 492.12,-146.49 466.76,-49.58 467.34,50.44 493.75,146.74 544.11,232.8 614.92,302.79 701.29,351.99 797.31,377.11 896.41,376.53 991.83,350.36 1077.09,300.46 1146.43,230.3 1195.16,144.72 1220.05,49.59 1219.47,-48.58 1193.54,-143.12 1144.1,-227.58 1074.59,-296.27 989.81,-344.54 895.57,-369.19 798.31,-368.61 704.66,-342.92 620.99,-293.94 552.96,-225.08 505.14,-141.09 480.73,-47.74 481.31,48.6 506.77,141.35 555.29,224.23 623.5,291.61 706.69,338.97 799.15,363.14 894.57,362.56 986.44,337.34 1068.51,289.28 1135.25,221.72 1182.15,139.33 1206.08,47.75 1205.5,-46.74 1180.52,-137.72 1132.92,-219 1066.01,-285.09 984.41,-331.53 893.73,-355.22 800.15,-354.64 710.06,-329.9 629.57,-282.76 564.14,-216.5 518.16,-135.7 494.7,-45.9 495.28,46.76 519.79,135.96 566.47,215.65 632.07,280.43 712.08,325.95 800.99,349.17 892.73,348.59 981.04,324.32 1059.94,278.1 1124.07,213.15 1169.13,133.94 1192.11,45.91 1191.53,-44.9 1167.5,-132.33 1121.74,-210.43 1057.43,-273.91 979.02,-318.51 891.89,-341.25 801.99,-340.67 715.45,-316.88 638.15,-271.58 575.32,-207.92 531.18,-130.31 508.67,-44.06 509.25,44.92 532.81,130.57 577.65,207.07 640.65,269.25 717.47,312.93 802.83,335.2 890.89,334.62 975.65,311.31 1051.36,266.92 1112.89,204.57 1156.11,128.55 1178.14,44.08 1177.56,-43.07 1154.48,-126.94 1110.56,-201.85 1048.86,-262.73 973.63,-305.49 890.05,-327.28 803.83,-326.7 720.84,-303.86 646.73,-260.4 586.5,-199.35 544.2,-124.92 522.64,-42.22 523.22,43.08 545.82,125.18 588.83,198.49 649.23,258.07 722.86,299.91 804.67,321.23 889.05,320.65 970.26,298.29 1042.78,255.75 1101.71,195.99 1143.09,123.15 1164.17,42.24 1163.59,-41.23 1141.46,-121.55 1099.38,-193.27 1040.28,-251.55 968.24,-292.47 888.21,-313.31 805.67,-312.73 726.23,-290.84 655.31,-249.22 597.68,-190.77 557.21,-119.52 536.61,-40.38 537.19,41.24 558.84,119.78 600,189.92 657.81,246.9 728.26,286.9 806.51,307.26 887.21,306.68 964.87,285.27 1034.2,244.57 1090.53,187.41 1130.07,117.76 1150.2,40.4 1149.62,-39.39 1128.45,-116.15 1088.2,-184.69 1031.7,-240.37 962.85,-279.45 886.37,-299.34 807.5,-298.76 731.63,-277.83 663.88,-238.04 608.85,-182.19 570.23,-114.13 550.58,-38.54 551.16,0.47 573.62,0.47
  lines w14: -0.34,0.47 23.66,0.47 ; 573.62,0.47 596.09,-29.53
Bottom Layer:
  lines w7.99: 23.66,80.47 47.66,40.47 47.66,0.47 48.24,-104.68 103.21,-307.58 208.75,-489.2 357.58,-637.22 539.53,-741.59 742.14,-795.28 951.58,-794.7 1153.6,-739.96 1334.42,-634.89 1481.79,-486.7 1585.7,-305.56 1639.15,-103.84 1638.57,104.69 1584.08,305.82 1479.46,485.85 1331.92,632.56 1151.57,736.02 950.74,789.23 743.13,788.64 542.9,734.39 363.66,630.23 217.6,483.35 114.6,303.79 61.63,103.85 62.21,-102.84 116.23,-302.19 219.93,-480.63 366.16,-626.04 544.92,-728.57 743.98,-781.31 949.74,-780.73 1148.2,-726.95 1325.85,-623.71 1470.61,-478.12 1572.68,-300.16 1625.18,-102 1624.6,102.85 1571.06,300.42 1468.28,477.27 1323.35,621.38 1146.18,723 948.9,775.26 744.97,774.67 548.29,721.37 372.24,619.06 228.78,474.77 127.62,298.4 75.6,102.01 76.18,-101 129.25,-296.79 231.1,-472.05 374.74,-614.86 550.31,-715.56 745.81,-767.34 947.91,-766.76 1142.81,-713.93 1317.27,-612.53 1459.43,-469.55 1559.67,-294.77 1611.21,-100.16 1610.63,101.01 1558.04,295.03 1457.1,468.69 1314.77,610.21 1140.79,709.98 947.06,761.29 746.81,760.7 553.68,708.35 380.82,607.88 239.95,466.19 140.64,293.01 89.57,100.17 90.15,-99.16 142.27,-291.4 242.28,-463.47 383.32,-603.68 555.7,-702.54 747.65,-753.37 946.07,-752.79 1137.42,-700.91 1308.69,-601.35 1448.25,-460.97 1546.65,-289.38 1597.24,-98.32 1596.66,99.17 1545.02,289.64 1445.92,460.12 1306.19,599.03 1135.4,696.96 945.22,747.32 748.65,746.73 559.07,695.34 389.39,596.7 251.13,457.61 153.66,287.62 103.54,98.33 104.12,-97.32 155.28,-286.01 253.46,-454.89 391.9,-592.5 561.1,-689.52 749.49,-739.4 944.23,-738.82 1132.03,-687.89 1300.11,-590.18 1437.07,-452.39 1533.63,-283.99 1583.27,-96.48 1582.69,97.34 1532,284.25 1434.75,451.54 1297.61,587.85 1130,683.94 943.38,733.35 750.49,732.76 564.47,682.32 397.97,585.52 262.31,449.04 166.68,282.22 117.51,96.49 118.09,-95.48 168.3,-280.62 264.64,-446.32 400.47,-581.33 566.49,-676.5 751.33,-725.43 942.39,-724.85 1126.63,-674.87 1291.54,-579 1425.9,-443.81 1520.61,-278.59 1569.3,-94.64 1568.72,95.5 1518.99,278.85 1423.57,442.96 1289.03,576.67 1124.61,670.93 941.54,719.38 752.33,718.79 569.86,669.3 406.55,574.34 273.49,440.46 179.69,276.83 131.48,94.65 132.06,-93.64 181.32,-275.22 275.82,-437.74 409.05,-570.15 571.88,-663.48 753.17,-711.46 940.55,-710.88 1121.24,-661.86 1282.96,-567.82 1414.72,-435.24 1507.59,-273.2 1555.33,-92.8 1554.75,93.66 1505.97,273.46 1412.39,434.38 1280.46,565.49 1119.22,657.91 939.71,705.41 754.17,704.82 575.25,656.28 415.13,563.16 284.67,431.88 192.71,271.44 145.45,92.81 146.03,-91.8 194.34,-269.83 287,-429.16 417.63,-558.97 577.27,-650.47 755.01,-697.49 938.71,-696.91 1115.85,-648.84 1274.38,-556.64 1403.54,-426.66 1494.58,-267.81 1541.36,-90.96 1540.78,91.82 1492.95,268.07 1401.21,425.8 1271.88,554.31 1113.83,644.89 937.87,691.44 756.01,690.85 580.64,643.26 423.71,551.98 295.85,423.3 205.73,266.05 159.42,90.97 160,-89.96 207.36,-264.44 298.18,-420.58 426.21,-547.79 582.67,-637.45 756.85,-683.52 936.87,-682.94 1110.46,-635.82 1265.8,-545.46 1392.36,-418.08 1481.56,-262.42 1527.39,-89.12 1526.81,89.98 1479.93,262.68 1390.03,417.23 1263.3,543.13 1108.44,631.87 936.03,677.47 757.85,676.88 586.04,630.25 432.28,540.8 307.03,414.72 218.75,260.66 173.39,89.14 173.97,-88.13 220.37,-259.05 309.36,-412 434.78,-536.61 588.06,-624.43 758.69,-669.55 935.03,-668.97 1105.07,-622.8 1257.22,-534.28 1381.18,-409.5 1468.54,-257.03 1513.42,-87.28 1512.84,88.14 1466.91,257.29 1378.85,408.65 1254.72,531.95 1103.04,618.85 934.19,663.5 759.69,662.91 591.43,617.23 440.86,529.63 318.21,406.15 231.76,255.26 187.36,87.3 187.94,-86.29 233.39,-253.66 320.53,-403.43 443.36,-525.43 593.45,-611.41 760.53,-655.58 933.19,-655 1099.67,-609.78 1248.65,-523.1 1370,-400.92 1455.52,-251.63 1499.45,-85.44 1498.87,86.3 1453.9,251.89 1367.67,400.07 1246.15,520.78 1097.65,605.84 932.35,649.53 761.52,648.94 596.82,604.21 449.44,518.45 329.38,397.57 244.78,249.87 201.33,85.46 201.91,-84.45 246.41,-248.26 331.71,-394.85 451.94,-514.25 598.84,-598.39 762.37,-641.61 931.35,-641.03 1094.28,-596.77 1240.07,-511.92 1358.82,-392.35 1442.5,-246.24 1485.48,-83.6 1484.9,84.46 1440.88,246.5 1356.49,391.49 1237.57,509.6 1092.26,592.82 930.51,635.56 763.36,634.97 602.21,591.19 458.02,507.27 340.56,388.99 257.8,244.48 215.3,83.62 215.88,-82.61 259.43,-242.87 342.89,-386.27 460.52,-503.07 604.23,-585.38 764.21,-627.64 929.51,-627.06 1088.89,-583.75 1231.49,-500.75 1347.64,-383.77 1429.49,-240.85 1471.51,-81.77 1470.93,82.62 1427.86,241.11 1345.32,382.92 1228.99,498.42 1086.87,579.8 928.67,621.59 765.2,621 607.6,578.17 466.59,496.09 351.74,380.41 270.82,239.09 229.27,81.78 229.85,-80.77 272.45,-237.48 354.07,-377.69 469.1,-491.9 609.63,-572.36 766.05,-613.67 927.67,-613.09 1083.5,-570.73 1222.91,-489.57 1336.47,-375.19 1416.47,-235.46 1457.54,-79.93 1456.96,80.78 1414.84,235.72 1334.14,374.34 1220.41,487.24 1081.47,566.78 926.83,607.62 767.04,607.03 613,565.16 475.17,484.91 362.92,371.84 283.84,233.69 243.24,79.94 243.82,-78.93 285.46,-232.09 365.25,-369.12 477.67,-480.72 615.02,-559.34 767.89,-599.7 925.83,-599.12 1078.1,-557.71 1214.34,-478.39 1325.29,-366.61 1403.45,-230.06 1443.57,-78.09 1442.99,78.94 1401.82,230.32 1322.96,365.76 1211.83,476.06 1076.08,553.76 924.99,593.65 768.88,593.06 618.39,552.14 483.75,473.73 374.1,363.26 296.85,228.3 257.21,78.1 257.79,-77.09 298.48,-226.69 376.43,-360.54 486.25,-469.54 620.41,-546.32 769.72,-585.73 924,-585.15 1072.71,-544.7 1205.76,-467.21 1314.11,-358.04 1390.43,-224.67 1429.6,-76.25 1429.02,77.1 1388.81,224.93 1311.78,357.18 1203.26,464.88 1070.69,540.75 923.15,579.68 770.72,579.09 623.78,539.12 492.33,462.55 385.28,354.68 309.87,222.91 271.18,76.26 271.76,-75.25 311.5,-221.3 387.61,-351.96 494.83,-458.36 625.8,-533.3 771.56,-571.76 922.16,-571.18 1067.32,-531.68 1197.18,-456.03 1302.93,-349.46 1377.41,-219.28 1415.63,-74.41 1415.05,75.27 1375.79,219.54 1300.6,348.6 1194.68,453.7 1065.3,527.73 921.31,565.71 772.56,565.12 629.17,526.1 500.91,451.37 396.46,346.1 322.89,217.52 285.15,74.42 285.73,-73.41 324.52,-215.91 398.79,-343.38 503.41,-447.18 631.2,-520.29 773.4,-557.79 920.32,-557.21 1061.93,-518.66 1188.6,-444.85 1291.75,-340.88 1364.4,-213.89 1401.66,-72.57 1401.08,73.43 1362.77,214.15 1289.42,340.03 1186.1,442.52 1059.91,514.71 919.47,551.74 774.4,551.15 634.57,513.08 509.48,440.19 407.64,337.52 335.91,212.13 299.12,72.58 299.7,-71.57 337.54,-210.52 409.96,-334.8 511.98,-436 636.59,-507.27 775.24,-543.82 918.48,-543.24 1056.54,-505.64 1180.02,-433.67 1280.57,-332.3 1351.38,-208.5 1387.69,-70.73 1387.11,71.59 1349.75,208.76 1278.24,331.45 1177.52,431.35 1054.51,501.69 917.64,537.77 776.24,537.18 639.96,500.07 518.06,429.02 418.81,328.95 348.93,206.73 313.09,70.74 313.67,-69.73 350.55,-205.13 421.14,-326.23 520.56,-424.82 641.98,-494.25 777.08,-529.85 916.64,-529.27 1051.14,-492.62 1171.45,-422.49 1269.39,-323.72 1338.36,-203.1 1373.72,-68.89 1373.14,69.75 1336.73,203.36 1267.06,322.87 1168.95,420.17 1049.12,488.67 915.8,523.8 778.08,523.21 645.35,487.05 526.64,417.84 429.99,320.37 361.94,201.34 327.06,68.9 327.64,-67.89 363.57,-199.73 432.32,-317.65 529.14,-413.64 647.37,-481.23 778.92,-515.88 914.8,-515.3 1045.75,-479.61 1162.87,-411.31 1258.21,-315.15 1325.34,-197.71 1359.75,-67.05 1359.17,67.91 1323.72,197.97 1255.88,314.29 1160.37,408.99 1043.73,475.66 913.96,509.83 779.92,509.24 650.74,474.03 535.22,406.66 441.17,311.79 374.96,195.95 341.03,67.07 341.61,-66.06 376.59,-194.34 443.5,-309.07 537.72,-402.46 652.76,-468.21 780.76,-501.91 912.96,-501.33 1040.36,-466.59 1154.29,-400.14 1247.04,-306.57 1312.33,-192.32 1345.78,-65.21 1345.2,66.07 1310.7,192.58 1244.71,305.72 1151.79,397.81 1038.34,462.64 912.12,495.86 781.76,495.27 656.13,461.01 543.79,395.48 452.35,303.21 387.98,190.56 355,65.23 355.58,-64.22 389.61,-188.95 454.68,-300.49 546.3,-391.29 658.16,-455.2 782.6,-487.94 911.12,-487.36 1034.97,-453.57 1145.71,-388.96 1235.86,-297.99 1299.31,-186.93 1331.81,-63.37 1331.23,64.23 1297.68,187.19 1233.53,297.14 1143.21,386.63 1032.94,449.62 910.28,481.89 783.59,481.3 661.53,447.99 552.37,384.3 463.53,294.64 401,185.16 368.97,63.39 369.55,-62.38 402.63,-183.56 465.86,-291.92 554.87,-380.11 663.55,-442.18 784.44,-473.97 909.28,-473.39 1029.57,-440.55 1137.14,-377.78 1224.68,-289.41 1286.29,-181.53 1317.84,-61.53 1317.26,62.39 1284.66,181.79 1222.35,288.56 1134.63,375.45 1027.55,436.6 908.44,467.92 785.43,467.33 666.92,434.98 560.95,373.12 474.71,286.06 414.02,179.77 382.94,61.55 383.52,-60.54 415.64,-178.16 477.04,-283.34 563.45,-368.93 668.94,-429.16 786.28,-460 907.44,-459.42 1024.18,-427.53 1128.56,-366.6 1213.5,-280.84 1273.27,-176.14 1303.87,-59.69 1303.29,60.55 1271.64,176.4 1211.17,279.98 1126.06,364.27 1022.16,423.58 906.6,453.95 787.27,453.36 672.31,421.96 569.53,361.94 485.89,277.48 427.03,174.38 396.91,59.71 397.49,-58.7 428.66,-172.77 488.22,-274.76 572.03,-357.75 674.33,-416.14 788.12,-446.03 905.6,-445.45 1018.79,-414.52 1119.98,-355.42 1202.32,-272.26 1260.25,-170.75 1289.9,-57.86 1289.32,58.71 1258.63,171.01 1199.99,271.4 1117.48,353.09 1016.77,410.57 904.76,439.98 789.11,439.39 677.7,408.94 578.11,350.76 497.07,268.9 440.05,168.99 410.88,57.87 411.46,-56.86 441.68,-167.38 499.39,-266.18 580.61,-346.57 679.73,-403.12 789.96,-432.06 903.76,-431.48 1013.4,-401.5 1111.4,-344.24 1191.14,-263.68 1247.24,-165.36 1275.93,-56.02 1275.35,56.87 1245.61,165.62 1188.81,262.83 1108.9,341.91 1011.38,397.55 902.92,426.01 790.95,425.42 683.1,395.92 586.68,339.59 508.24,260.32 453.07,163.6 424.85,56.03 425.43,-55.02 454.7,-161.99 510.57,-257.6 589.18,-335.39 685.12,-390.11 791.79,-418.09 901.93,-417.51 1008.01,-388.48 1102.82,-333.06 1179.96,-255.1 1234.22,-159.97 1261.96,-54.18 1261.38,55.03 1232.59,160.23 1177.63,254.25 1100.32,330.74 1005.98,384.53 901.08,412.04 792.79,411.45 688.49,382.9 595.26,328.41 519.42,251.75 466.09,158.2 438.82,54.19 439.4,-53.18 467.72,-156.6 521.75,-249.03 597.76,-324.21 690.51,-377.09 793.63,-404.12 900.09,-403.54 1002.61,-375.46 1094.25,-321.88 1168.78,-246.52 1221.2,-154.57 1247.99,-52.34 1247.41,53.19 1219.57,154.83 1166.45,245.67 1091.75,319.56 1000.59,371.51 899.24,398.07 794.63,397.48 693.88,369.89 603.84,317.23 530.6,243.17 479.11,152.81 452.79,52.35 453.37,-51.34 480.73,-151.2 532.93,-240.45 606.34,-313.03 695.9,-364.07 795.47,-390.15 898.25,-389.57 997.22,-362.44 1085.67,-310.71 1157.6,-237.95 1208.18,-149.18 1234.02,-50.5 1233.44,51.36 1206.55,149.44 1155.28,237.09 1083.17,308.38 995.2,358.5 897.4,384.1 796.47,383.51 699.27,356.87 612.42,306.05 541.78,234.59 492.12,147.42 466.76,50.51 467.34,-49.5 493.75,-145.81 544.11,-231.87 614.92,-301.86 701.29,-351.05 797.31,-376.18 896.41,-375.6 991.83,-349.43 1077.09,-299.53 1146.43,-229.37 1195.16,-143.79 1220.05,-48.66 1219.47,49.52 1193.54,144.05 1144.1,228.52 1074.59,297.2 989.81,345.48 895.57,370.13 798.31,369.54 704.66,343.85 620.99,294.87 552.96,226.01 505.14,142.03 480.73,48.67 481.31,-47.66 506.77,-140.42 555.29,-223.29 623.5,-290.68 706.69,-338.03 799.15,-362.21 894.57,-361.63 986.44,-336.41 1068.51,-288.35 1135.25,-220.79 1182.15,-138.4 1206.08,-46.82 1205.5,47.68 1180.52,138.66 1132.92,219.94 1066.01,286.02 984.41,332.46 893.73,356.16 800.15,355.57 710.06,330.83 629.57,283.69 564.14,217.44 518.16,136.63 494.7,46.83 495.28,-45.82 519.79,-135.03 566.47,-214.72 632.07,-279.5 712.08,-325.02 800.99,-348.24 892.73,-347.66 981.04,-323.39 1059.94,-277.17 1124.07,-212.21 1169.13,-133 1192.11,-44.98 1191.53,45.84 1167.5,133.26 1121.74,211.36 1057.43,274.84 979.02,319.44 891.89,342.19 801.99,341.6 715.45,317.81 638.15,272.51 575.32,208.86 531.18,131.24 508.67,45 509.25,-43.99 532.81,-129.63 577.65,-206.14 640.65,-268.32 717.47,-312 802.83,-334.27 890.89,-333.69 975.65,-310.37 1051.36,-265.99 1112.89,-203.64 1156.11,-127.61 1178.14,-43.14 1177.56,44 1154.48,127.87 1110.56,202.78 1048.86,263.66 973.63,306.42 890.05,328.22 803.83,327.63 720.84,304.8 646.73,261.33 586.5,200.28 544.2,125.85 522.64,43.16 523.22,-42.15 545.82,-124.24 588.83,-197.56 649.23,-257.14 722.86,-298.98 804.67,-320.3 889.05,-319.72 970.26,-297.35 1042.78,-254.81 1101.71,-195.06 1143.09,-122.22 1164.17,-41.3 1163.59,42.16 1141.46,122.48 1099.38,194.2 1040.28,252.48 968.24,293.41 888.21,314.25 805.67,313.66 726.23,291.78 655.31,250.16 597.68,191.7 557.21,120.46 536.61,41.32 537.19,-40.31 558.84,-118.85 600,-188.98 657.81,-245.96 728.26,-285.96 806.51,-306.33 887.21,-305.75 964.87,-284.34 1034.2,-243.63 1090.53,-186.48 1130.07,-116.83 1150.2,-39.46 1149.62,40.32 1128.45,117.09 1088.2,185.63 1031.7,241.31 962.85,280.39 886.37,300.28 807.5,299.69 731.63,278.76 663.88,238.98 608.85,183.12 570.23,115.07 550.58,39.48 551.16,0.47 573.62,0.47
  lines w14: -0.34,80.47 23.66,80.47 ; 573.62,0.47 596.09,-29.53